# EAGLE library part DK51U (library inductors-2)
FILTER
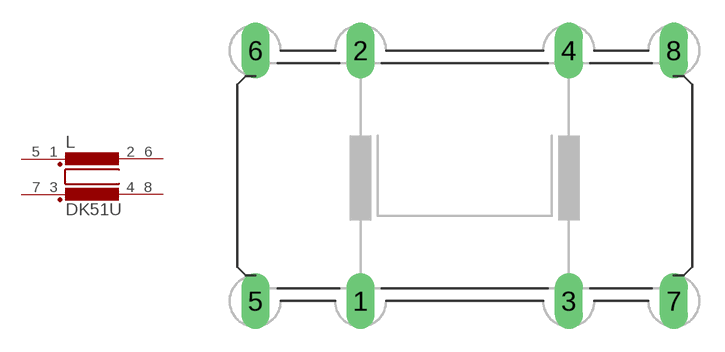
[diagram p2: symbol with the pads of DK51; footprint DK51]

Designator prefix L

## DK51U  [DK51]
1  1  pas
2  2  pas
3  3  pas
4  4  pas
5  5  pas
6  6  pas
7  7  pas
8  8  pas

## Footprint DK51 (pad centres in mm)
FILTER manufacturer Vogt
drill 1.118 long: 1 -6.223,-7.493; 2 -6.223,7.493; 3 6.223,-7.493; 4 6.223,7.493; 5 -12.497,-7.493; 6 -12.497,7.493; 7 12.497,-7.493; 8 12.497,7.493